# Altium schematic symbol library Lib.SCHLIB: 36 symbols
Pins are listed as number, name and electrical type; pins without a type are passive.

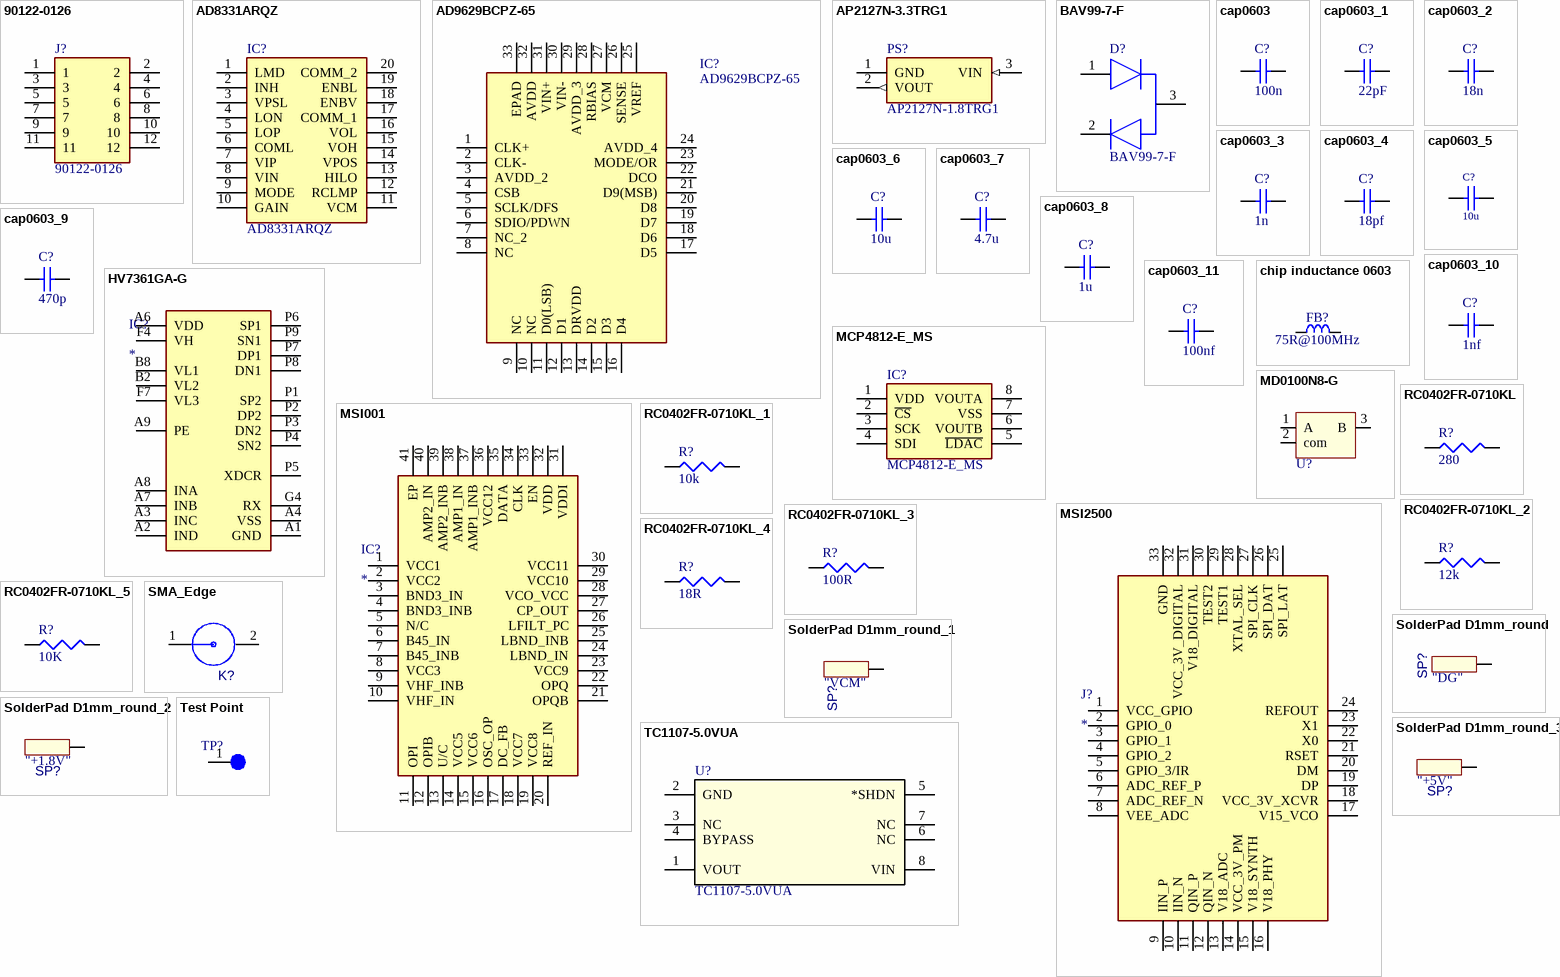
[diagram p0: symbols 90122-0126 to Test Point]

## 90122-0126
designator J?
Connector; Manufacturer_Name: Molex; Datasheet Link: https://componentsearchengine.com/Datasheets/2/90122-0126.pdf; Height: 6.15mm; Manufacturer_Part_Number: 90122-0126; Mouser Part Number: 538-90122-0126; Mouser Price/Stock: https://www.mouser.co.uk/ProductDetail/Molex/90122-0126?qs=PvP5v7Eimsm0iCqn6boA0w%3D%3D
footprint HDRRA12W65P254_2X6_1516X250X615P
pins: 1, 2, 3, 4, 5, 6, 7, 8, 9, 10, 11, 12

## AD8331ARQZ
designator IC?
Integrated Circuit; Manufacturer_Name: Analog Devices; Datasheet Link: http://www.analog.com/static/imported-files/data_sheets/AD8331_8332_8334.pdf; Height: 1.75mm; Manufacturer_Part_Number: AD8331ARQZ; Mouser Part Number: 584-AD8331ARQZ; Mouser Price/Stock: https://www.mouser.co.uk/ProductDetail/Analog-Devices/AD8331ARQZ?qs=%2FtpEQrCGXCwx0%2F22gf7ohQ%3D%3D; Arrow Part Number: AD8331ARQZ; Arrow Price/Stock: https://www.arrow.com/en/products/ad8331arqz/analog-devices
footprint SOP64P600X175-20N
pins: 1 LMD, 2 INH, 3 VPSL, 4 LON, 5 LOP, 6 COML, 7 VIP, 8 VIN, 9 MODE, 10 GAIN, 11 VCM, 12 RCLMP, 13 HILO, 14 VPOS, 15 VOH, 16 VOL, 17 COMM_1, 18 ENBV, 19 ENBL, 20 COMM_2

## AD9629BCPZ-65
designator IC?
Integrated Circuit; Manufacturer_Name: Analog Devices; Manufacturer_Part_Number: AD9629BCPZ-65; Mouser Part Number: 584-AD9629BCPZ-65; Mouser Price/Stock: https://www.mouser.co.uk/ProductDetail/Analog-Devices/AD9629BCPZ-65?qs=BpaRKvA4VqGjvk9AFyB3jg%3D%3D; Arrow Part Number: AD9629BCPZ-65; Arrow Price/Stock: https://www.arrow.com/en/products/ad9629bcpz-65/analog-devices
footprint QFN50P500X500X100-33N
pins: 1 CLK+, 2 CLK-, 3 AVDD_2, 4 CSB, 5 SCLK/DFS, 6 SDIO/PDWN, 7 NC_2, 8 NC, 9 NC, 10 NC, 11 D0(LSB), 12 D1, 13 DRVDD, 14 D2, 15 D3, 16 D4, 17 D5, 18 D6, 19 D7, 20 D8, 21 D9(MSB), 22 DCO, 23 MODE/OR, 24 AVDD_4, 25 VREF, 26 SENSE, 27 VCM, 28 RBIAS, 29 AVDD_3, 30 VIN-, 31 VIN+, 32 AVDD, 33 EPAD

## AP2127N-3.3TRG1
designator PS?, comment AP2127N-1.8TRG1
Power Supply; Manufacturer_Name: Diodes Inc.; Manufacturer_Part_Number: AP2127N-3.3TRG1; Datasheet Link: https://componentsearchengine.com/Datasheets/1/AP2127N-3.3TRG1.pdf; Height: 1.1mm; Mouser Part Number: 621-AP2127N-3.3TRG1; Mouser Price/Stock: https://www.mouser.co.uk/ProductDetail/Diodes-Incorporated/AP2127N-33TRG1/?qs=x6A8l6qLYDCwIat%252BGHxAAg%3D%3D; Arrow Part Number: AP2127N-3.3TRG1; Arrow Price/Stock: https://www.arrow.com/en/products/ap2127n-3.3trg1/diodes-incorporated
footprint SOT89P240X110-3N
footprint SOT89P240X110-3N
pins: 1 GND (power), 2 VOUT (out), 3 VIN (in)

## BAV99-7-F
designator D?
Diode; Manufacturer_Name: Diodes Inc.; Datasheet Link: https://www.diodes.com/assets/Datasheets/ds12007.pdf; Height: 1.2mm; Manufacturer_Part_Number: BAV99-7-F; Mouser Part Number: 621-BAV99-F; Mouser Price/Stock: https://www.mouser.co.uk/ProductDetail/Diodes-Incorporated/BAV99-7-F?qs=E9Ihi8A05%252BSTVRjo74hQDA%3D%3D; Arrow Part Number: BAV99-7-F; Arrow Price/Stock: https://www.arrow.com/en/products/bav99-7-f/diodes-incorporated?region=nac
footprint SOT95P240X120-3N
footprint SOT95P240X120-3N
pins: 1 ANODE, 2 CATHODE, 3 A/K

## cap0603
designator C?, comment value 100n  (hidden comment: cap0402)
Capacitor  0402 inch; Published: 8-Jun-2000; LatestRevisionDate: 17-Jul-2002; LatestRevisionNote: Re-released for DXP Platform.; PackageReference: RAD-0.3; Publisher: Altium Limited; PackageDescription: Radial Cap, Thru-Hole; 2 Leads; 0.3 in Pin Spacing
signal-integrity model Cap
footprint SM0603 _3D_cap (standard  0603 inch size)
footprint 0402_C
pins: 1, 2

## cap0603_1
designator C?, comment value 22pF  (hidden comment: cap0402)
Capacitor  0402 inch; Published: 8-Jun-2000; LatestRevisionDate: 17-Jul-2002; LatestRevisionNote: Re-released for DXP Platform.; PackageReference: RAD-0.3; Publisher: Altium Limited; PackageDescription: Radial Cap, Thru-Hole; 2 Leads; 0.3 in Pin Spacing
signal-integrity model Cap
footprint SM0603 _3D_cap (standard  0603 inch size)
footprint 0402_C
pins: 1, 2

## cap0603_2
designator C?, comment value 18n  (hidden comment: cap0402)
Capacitor  0402 inch; Published: 8-Jun-2000; LatestRevisionDate: 17-Jul-2002; LatestRevisionNote: Re-released for DXP Platform.; PackageReference: RAD-0.3; Publisher: Altium Limited; PackageDescription: Radial Cap, Thru-Hole; 2 Leads; 0.3 in Pin Spacing
signal-integrity model Cap
footprint SM0603 _3D_cap (standard  0603 inch size)
footprint 0402_C
pins: 1, 2

## cap0603_3
designator C?, comment value 1n  (hidden comment: cap0402)
Capacitor  0402 inch; Published: 8-Jun-2000; LatestRevisionDate: 17-Jul-2002; LatestRevisionNote: Re-released for DXP Platform.; PackageReference: RAD-0.3; Publisher: Altium Limited; PackageDescription: Radial Cap, Thru-Hole; 2 Leads; 0.3 in Pin Spacing
signal-integrity model Cap
footprint SM0603 _3D_cap (standard  0603 inch size)
footprint 0402_C
pins: 1, 2

## cap0603_4
designator C?, comment value 18pf  (hidden comment: cap0402)
Capacitor  0402 inch; Published: 8-Jun-2000; LatestRevisionDate: 17-Jul-2002; LatestRevisionNote: Re-released for DXP Platform.; PackageReference: RAD-0.3; Publisher: Altium Limited; PackageDescription: Radial Cap, Thru-Hole; 2 Leads; 0.3 in Pin Spacing
signal-integrity model Cap
footprint SM0603 _3D_cap (standard  0603 inch size)
footprint 0402_C
pins: 1, 2

## cap0603_5
designator C?, comment value 10u  (hidden comment: cap0402)
Capacitor  0402 inch; Published: 8-Jun-2000; LatestRevisionDate: 17-Jul-2002; LatestRevisionNote: Re-released for DXP Platform.; PackageReference: RAD-0.3; Publisher: Altium Limited; PackageDescription: Radial Cap, Thru-Hole; 2 Leads; 0.3 in Pin Spacing
signal-integrity model Cap
footprint SM0603 _3D_cap
pins: 1, 2

## cap0603_6
designator C?, comment value 10u  (hidden comment: cap0603)
Capacitor  0603 inch; Published: 8-Jun-2000; LatestRevisionDate: 17-Jul-2002; LatestRevisionNote: Re-released for DXP Platform.; PackageReference: RAD-0.3; Publisher: Altium Limited; PackageDescription: Radial Cap, Thru-Hole; 2 Leads; 0.3 in Pin Spacing
signal-integrity model Cap
footprint SM0603 _3D_cap (standard  0603 inch size)
footprint SM0603 _3D_cap
pins: 1, 2

## cap0603_7
designator C?, comment value 4.7u  (hidden comment: cap0603)
Capacitor  0603 inch; Published: 8-Jun-2000; LatestRevisionDate: 17-Jul-2002; LatestRevisionNote: Re-released for DXP Platform.; PackageReference: RAD-0.3; Publisher: Altium Limited; PackageDescription: Radial Cap, Thru-Hole; 2 Leads; 0.3 in Pin Spacing
signal-integrity model Cap
footprint SM0603 _3D_cap (standard  0603 inch size)
footprint SM0603 _3D_cap
pins: 1, 2

## cap0603_8
designator C?, comment value 1u  (hidden comment: cap0603)
Capacitor  0603 inch; Published: 8-Jun-2000; LatestRevisionDate: 17-Jul-2002; LatestRevisionNote: Re-released for DXP Platform.; PackageReference: RAD-0.3; Publisher: Altium Limited; PackageDescription: Radial Cap, Thru-Hole; 2 Leads; 0.3 in Pin Spacing
signal-integrity model Cap
footprint SM0603 _3D_cap (standard  0603 inch size)
footprint SM0603 _3D_cap
pins: 1, 2

## cap0603_9
designator C?, comment value 470p  (hidden comment: cap0402)
Capacitor  0402 inch; Published: 8-Jun-2000; LatestRevisionDate: 17-Jul-2002; LatestRevisionNote: Re-released for DXP Platform.; PackageReference: RAD-0.3; Publisher: Altium Limited; PackageDescription: Radial Cap, Thru-Hole; 2 Leads; 0.3 in Pin Spacing
signal-integrity model Cap
footprint SM0603 _3D_cap (standard  0603 inch size)
footprint 0402_C
pins: 1, 2

## cap0603_10
designator C?, comment value 1nf  (hidden comment: cap0402)
Capacitor  0603 inch; Published: 8-Jun-2000; LatestRevisionDate: 17-Jul-2002; LatestRevisionNote: Re-released for DXP Platform.; PackageReference: RAD-0.3; Publisher: Altium Limited; PackageDescription: Radial Cap, Thru-Hole; 2 Leads; 0.3 in Pin Spacing
signal-integrity model Cap
footprint SM0603 _3D_cap (standard  0603 inch size)
footprint 0402_C
pins: 1, 2

## cap0603_11
designator C?, comment value 100nf  (hidden comment: cap0402)
Capacitor  0402 inch; Published: 8-Jun-2000; LatestRevisionDate: 17-Jul-2002; LatestRevisionNote: Re-released for DXP Platform.; PackageReference: RAD-0.3; Publisher: Altium Limited; PackageDescription: Radial Cap, Thru-Hole; 2 Leads; 0.3 in Pin Spacing
signal-integrity model Cap
footprint SM0603 _3D_cap (standard  0603 inch size)
footprint 0402_C
pins: 1, 2

## chip inductance 0603
designator FB?, comment 75R@100MHz
chip inductance 0603; Part Number: IND0805_MURATA_BLM21BB750SN1D; Part Description: SMD EMIFIL Suppression Chip Ferrite Bead; Manufacturer: MURATA; Manufacturer Part Number: BLM21BB750SN1D; Power: 700mA; Resistance: 0.16R; Tolerance: ±25%; Table: Inductors SMD; Component Kind: Standard; Component Type: Standard; Footprint: INDC2012X105N; Pin Count: 2; Value: 75R@100MHz; Status: None; Case: 0805; Mounted: Yes; Socket: No; SMD: Yes; ComponentHeight: 1.05mm; Author: S. Jafar; CreateDate: 12/21/2015; LatestRevisionDate: 12/21/2015
footprint SM0603_3D_res (0603 inch resistor)
pins: 1, 2

## HV7361GA-G
designator IC?
Integrated Circuit; Manufacturer_Name: Microchip; Manufacturer_Part_Number: HV7361GA-G; Datasheet Link: http://ww1.microchip.com/downloads/en/DeviceDoc/20005570C.pdf; Height: 1.05mm; Mouser Part Number: 579-HV7361GA-G; Mouser Price/Stock: https://www.mouser.co.uk/ProductDetail/Microchip-Technology/HV7361GA-G?qs=NoqMqJKvPFJ98Yl1cb744A%3D%3D; Arrow Part Number: HV7361GA-G; Arrow Price/Stock: https://www.arrow.com/en/products/hv7361ga-g/microchip-technology
footprint BGA22C50P9X14_500X700X105
pins: A1 GND, A2 IND, A3 INC, A4 VSS, A6 VDD, A7 INB, A8 INA, A9 PE, B2 VL2, B8 VL1, F4 VH, F7 VL3, G4 RX, P1 SP2, P2 DP2, P3 DN2, P4 SN2, P5 XDCR, P6 SP1, P7 DP1, P8 DN1, P9 SN1

## MCP4812-E_MS
designator IC?
Integrated Circuit; Manufacturer_Name: Microchip; Manufacturer_Part_Number: MCP4812-E/MS; Datasheet Link: http://ww1.microchip.com/downloads/en/DeviceDoc/20002249B.pdf; Height: 1.1mm; Mouser Part Number: 579-MCP4812-E/MS; Mouser Price/Stock: https://www.mouser.co.uk/ProductDetail/Microchip-Technology/MCP4812-E-MS?qs=bxUt0k7cytJEpyWPtzKy6A%3D%3D; Arrow Part Number: MCP4812-E/MS; Arrow Price/Stock: https://www.arrow.com/en/products/mcp4812-ems/microchip-technology
footprint SOP65P490X110-8N
pins: 1 VDD, 2 ~{CS}, 3 SCK, 4 SDI, 5 ~{LDAC}, 6 VOUTB, 7 VSS, 8 VOUTA

## MD0100N8-G
designator U?, comment T/R switch  (value not drawn)
footprint SOT89-150P409X160-3N (SOT89, 3-Leads, Body 4,50x2,45mm, Pitch 1,50mm, Lead Span 4,1mm, IPC Medium Density)
pins: 1 A, 2 com, 3 B

## MSI001
designator IC?
Integrated Circuit; Manufacturer_Name: MIRICS; Manufacturer_Part_Number: MSI001; Datasheet Link: http://sdr.lt/~hexx/MSi001_Datasheet_R3P3.pdf; Height: 0.9mm
footprint QFN50P600X600X90-41N-D
pins: 1 VCC1, 2 VCC2, 3 BND3_IN, 4 BND3_INB, 5 N/C, 6 B45_IN, 7 B45_INB, 8 VCC3, 9 VHF_INB, 10 VHF_IN, 11 OPI, 12 OPIB, 13 U/C, 14 VCC5, 15 VCC6, 16 OSC_OP, 17 DC_FB, 18 VCC7, 19 VCC8, 20 REF_IN, 21 OPQB, 22 OPQ, 23 VCC9, 24 LBND_IN, 25 LBND_INB, 26 LFILT_PC, 27 CP_OUT, 28 VCO_VCC, 29 VCC10, 30 VCC11, 31 VDDI, 32 VDD, 33 EN, 34 CLK, 35 DATA, 36 VCC12, 37 AMP1_INB, 38 AMP1_IN, 39 AMP2_INB, 40 AMP2_IN, 41 EP

## MSI2500
designator J?
Connector; Manufacturer_Name: MIRICS; Manufacturer_Part_Number: MSI2500; Datasheet Link: http://sdr.lt/~hexx/MSi2500.pdf; Height: 0.9mm
footprint QFN50P500X500X90-33N-D
pins: 1 VCC_GPIO, 2 GPIO_0, 3 GPIO_1, 4 GPIO_2, 5 GPIO_3/IR, 6 ADC_REF_P, 7 ADC_REF_N, 8 VEE_ADC, 9 IIN_P, 10 IIN_N, 11 QIN_P, 12 QIN_N, 13 V18_ADC, 14 VCC_3V_PM, 15 V18_SYNTH, 16 V18_PHY, 17 V15_VCO, 18 VCC_3V_XCVR, 19 DP, 20 DM, 21 RSET, 22 X0, 23 X1, 24 REFOUT, 25 SPI_LAT, 26 SPI_DAT, 27 SPI_CLK, 28 XTAL_SEL, 29 TEST1, 30 TEST2, 31 V18_DIGITAL, 32 VCC_3V_DIGITAL, 33 GND

## RC0402FR-0710KL
designator R?, comment 280
RES 280 OHM 1/16W 0402 SMD; Power (Watts): 0.063W, 1/16W; .Checked PCB: used; Category: Resistors; Package / Case: 0402 (1005 Metric); Resistance (Ohms): 280; Value: 280; .Checked SCH: used; Size / Dimension: 0.039" L x 0.020" W (1.00mm x 0.50mm); Height: 0.016" (0.40mm); ComponentLink1URL: http://www.yageo.com/documents/recent/PYu-RC0402_51_RoHS_L_6.pdf; ComponentLink1Description: http://www.yageo.com/documents/recent/PYu-RC0402_51_RoHS_L_6.pdf
footprint R0402
footprint 0402_R
pins: 1, 2

## RC0402FR-0710KL_1
designator R?, comment 10k
RES 10K OHM 1/16W 1% 0402 SMD; Resistance (Ohms): 280; Power (Watts): 0.063W, 1/16W; .Checked PCB: used; Category: Resistors; Package / Case: 0402 (1005 Metric); Value: 10k; .Checked SCH: used; Size / Dimension: 0.039" L x 0.020" W (1.00mm x 0.50mm); Height: 0.016" (0.40mm); ComponentLink1URL: http://www.yageo.com/documents/recent/PYu-RC0402_51_RoHS_L_6.pdf; ComponentLink1Description: http://www.yageo.com/documents/recent/PYu-RC0402_51_RoHS_L_6.pdf
footprint R0402
footprint 0402_R
pins: 1, 2

## RC0402FR-0710KL_2
designator R?, comment 12k
RES 12K OHM 1/16W 0402 SMD; Power (Watts): 0.063W, 1/16W; .Checked PCB: used; Category: Resistors; Package / Case: 0402 (1005 Metric); Value: 12k; .Checked SCH: used; Size / Dimension: 0.039" L x 0.020" W (1.00mm x 0.50mm); Height: 0.016" (0.40mm); ComponentLink1URL: http://www.yageo.com/documents/recent/PYu-RC0402_51_RoHS_L_6.pdf; ComponentLink1Description: http://www.yageo.com/documents/recent/PYu-RC0402_51_RoHS_L_6.pdf
footprint R0402
footprint 0402_R
pins: 1, 2

## RC0402FR-0710KL_3
designator R?, comment 100R
RES 10K OHM 1/16W 0402 SMD; Power (Watts): 0.063W, 1/16W; .Checked PCB: used; Category: Resistors; Package / Case: 0402 (1005 Metric); Value: 10k; .Checked SCH: used; Size / Dimension: 0.039" L x 0.020" W (1.00mm x 0.50mm); Height: 0.016" (0.40mm); ComponentLink1URL: http://www.yageo.com/documents/recent/PYu-RC0402_51_RoHS_L_6.pdf; ComponentLink1Description: http://www.yageo.com/documents/recent/PYu-RC0402_51_RoHS_L_6.pdf
footprint R0402
footprint 0402_R
pins: 1, 2

## RC0402FR-0710KL_4
designator R?, comment 18R
RES 18 OHM 1/16W 0402 SMD; Power (Watts): 0.063W, 1/16W; .Checked PCB: used; Category: Resistors; Package / Case: 0402 (1005 Metric); Value: 18R; .Checked SCH: used; Size / Dimension: 0.039" L x 0.020" W (1.00mm x 0.50mm); Height: 0.016" (0.40mm); ComponentLink1URL: http://www.yageo.com/documents/recent/PYu-RC0402_51_RoHS_L_6.pdf; ComponentLink1Description: http://www.yageo.com/documents/recent/PYu-RC0402_51_RoHS_L_6.pdf
footprint R0402
footprint 0402_R
footprint 0402_R
pins: 1, 2

## RC0402FR-0710KL_5
designator R?, comment 10K
RES 10K OHM 1/16W 0402 SMD; Power (Watts): 0.063W, 1/16W; .Checked PCB: used; Category: Resistors; Package / Case: 0402 (1005 Metric); Value: 10k; .Checked SCH: used; Size / Dimension: 0.039" L x 0.020" W (1.00mm x 0.50mm); Height: 0.016" (0.40mm); ComponentLink1URL: http://www.yageo.com/documents/recent/PYu-RC0402_51_RoHS_L_6.pdf; ComponentLink1Description: http://www.yageo.com/documents/recent/PYu-RC0402_51_RoHS_L_6.pdf
footprint R0402
footprint 0402_R
pins: 1, 2

## SMA_Edge
designator K?  (value not drawn)
Value: *
footprint AMPHENOL_132357-11
footprint AMPHENOL_132357-11
pins: 1, 2

## SolderPad D1mm_round
designator SP?  value "DG"  (hidden comment: SolderPad D1mm_round)
for finger touch
footprint SolderPad_D1mm _round
pins: 1

## SolderPad D1mm_round_1
designator SP?, comment value "VCM"  (hidden comment: SolderPad D1mm_round)
for finger touch
footprint SolderPad_D1mm _round (7mm solder circle for finger touch)
footprint SolderPad_D1mm _round
pins: 1

## SolderPad D1mm_round_2
designator SP?, comment value "+1.8V"  (hidden comment: SolderPad D1mm_round)
for finger touch
footprint SolderPad_D1mm _round
pins: 1

## SolderPad D1mm_round_3
designator SP?, comment value "+5V"  (hidden comment: SolderPad D1mm_round)
for finger touch
footprint SolderPad_D1mm _round
pins: 1

## TC1107-5.0VUA
designator U?
No Description Available; Mfr_Name: Microchip; Copyright: Copyright (C) 2022 Ultra Librarian. All rights reserved.; Manufacturer_Part_Number: TC1107-5.0VUA; RefDes: RefDes; Type: DEV
footprint MSOP8_MC_MCH
footprint MSOP8_MC_MCH_
pins: 1 VOUT, 2 GND, 3 NC, 4 BYPASS, 5 *SHDN, 6 NC, 7 NC, 8 VIN

## Test Point
designator TP?, comment TP  (value not drawn)
Connector; Manufacturer_Name: Oxley; Manufacturer_Part_Number: 050/LT/B2; Datasheet Link: http://www.farnell.com/datasheets/2644146.pdf?_ga=2.63921641.795442872.1562935128-2061028581.1560430415; Height: 4.5mm
footprint TP_1mm
pins: 1